# EAGLE library part 5569-10 (library con-molex-5569)
4.20mm Pitch Mini-Fit Jr.™ - 10 pin Source: http://www.molex.com/molex/products/family?key=minifit_jr&channel=PRODUCTS&chanName=family&pageTitle=Introduction
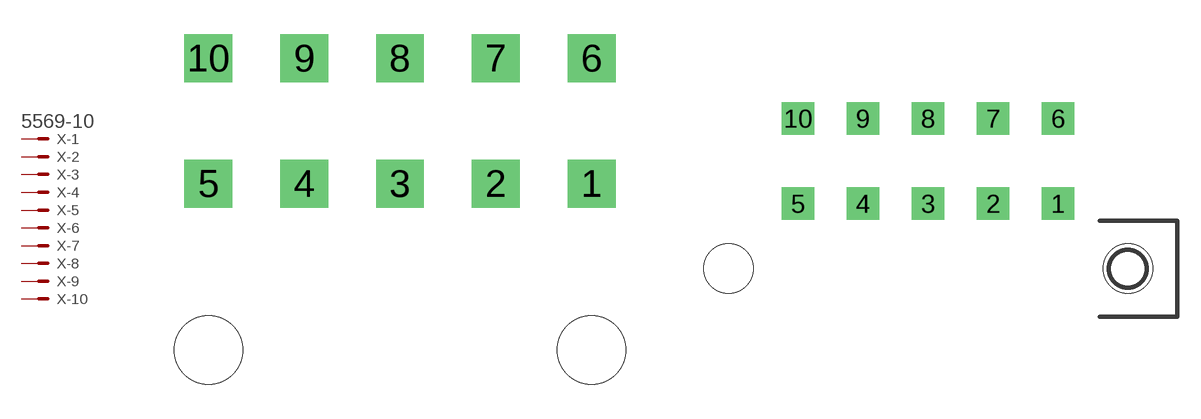
[diagram p0: symbol with the pads of 5569-10; footprints 5569-10, 5569-10A]

Designator prefix X; gates -1=MV -2=M -3=M -4=M -5=M -6=M -7=M -8=M -9=M -10=M

## 5569-10  [5569-10]
1  -1:>NAME$
2  -2:>NAME$
3  -3:>NAME$
4  -4:>NAME$
5  -5:>NAME$
6  -6:>NAME$
7  -7:>NAME$
8  -8:>NAME$
9  -9:>NAME$
10  -10:>NAME$

## 5569-10A  [5569-10A]
Pads as for 5569-10

## Footprint 5569-10 (pad centres in mm)
5569-10 - 10 pin 4.20mm Pitch Mini-Fit Jr.™ Header, Dual Row, Right Angle, with Snap-in Plastic Peg PCB Lock. Source: http://www.molex.com/pdm_docs/sd/039307025_sd.pdf
drill 1.4 square: 1 8.4,-2.75; 2 4.2,-2.75; 3 0,-2.75; 4 -4.2,-2.75; 5 -8.4,-2.75; 6 8.4,2.75; 7 4.2,2.75; 8 0,2.75; 9 -4.2,2.75; 10 -8.4,2.75
hole 3 at 8.4,-10.05
hole 3 at -8.4,-10.05

## Footprint 5569-10A (pad centres in mm)
5569-10A - 10 pin 4.20mm Pitch Mini-Fit Jr.™ Header, Dual Row, Right Angle, with PCB Mounting Flange. Source: http://www.molex.com/pdm_docs/sd/039291048_sd.pdf
drill 1.4 square: 1 8.4,-2.75; 2 4.2,-2.75; 3 0,-2.75; 4 -4.2,-2.75; 5 -8.4,-2.75; 6 8.4,2.75; 7 4.2,2.75; 8 0,2.75; 9 -4.2,2.75; 10 -8.4,2.75
hole 3.2 at 12.9,-6.95
hole 3.2 at -12.9,-6.95